# EAGLE library part RJ-45 (library thecustomgeek)
Part 43860-0001 from Molex. Right angle, through hole RJ-45 Jack.
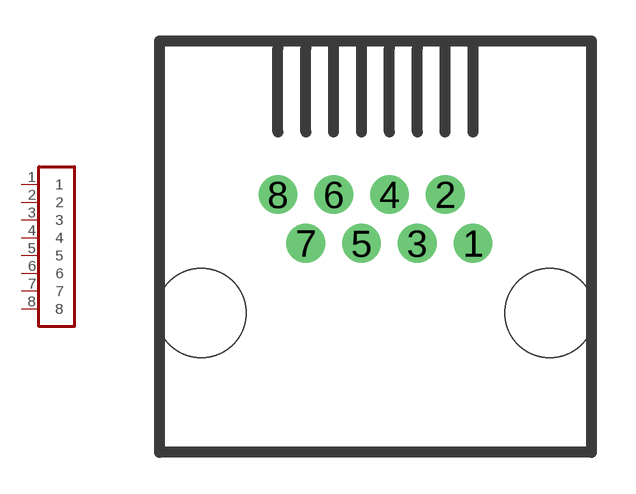
[diagram p5: symbol with the pads of RJ-45; footprint RJ-45]

Designator prefix -

## RJ-45  [RJ-45]
1  1
2  2
3  3
4  4
5  5
6  6
7  7
8  8

## Footprint RJ-45 (pad centres in mm)
drill 0.9: 1 0,0; 2 -1.016,1.778; 3 -2.032,0; 4 -3.048,1.778; 5 -4.064,0; 6 -5.08,1.778; 7 -6.096,0; 8 -7.112,1.778
hole 3.251 at 2.794,-2.54
hole 3.251 at -9.906,-2.54